# Altium schematic symbol library Stargazer_Schematic_Lib.SchLib: 36 symbols (part 2 of 2)
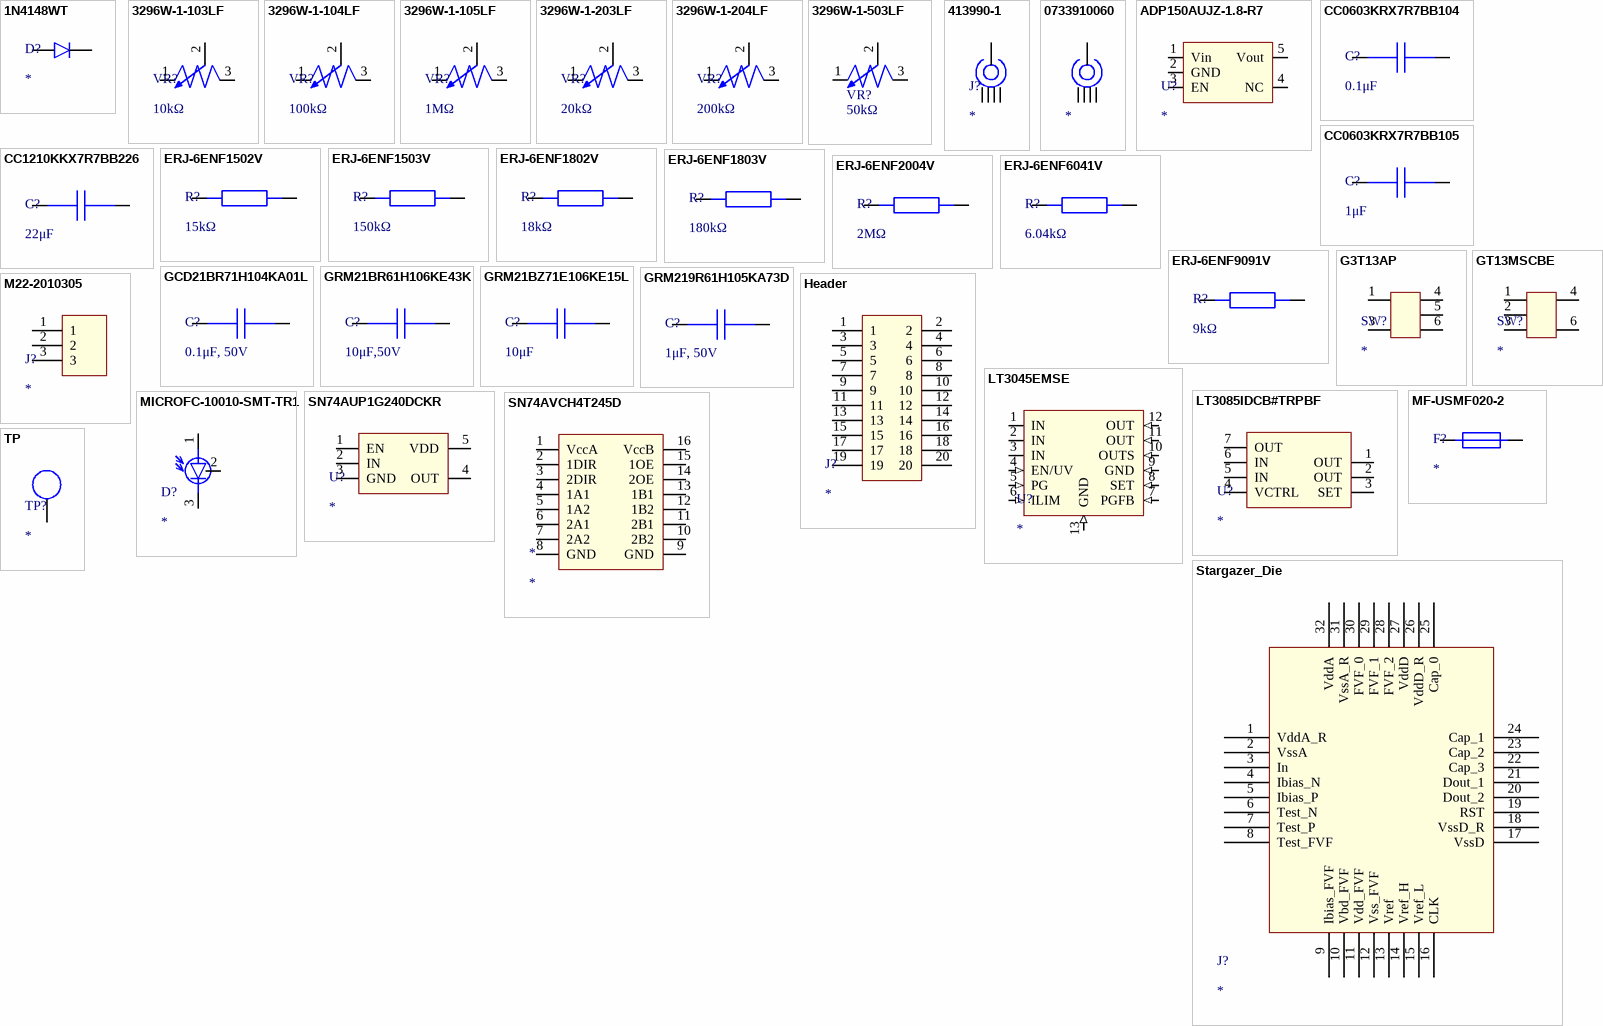
[diagram p1: symbols 1N4148WT to TP]

## ERJ-6ENF6041V
designator R?, comment 6.04kΩ
Fixed Resistor, Metal Glaze/thick Film, 0.125W, 6040ohm, 150V, 1% +/-Tol, 100ppm/Cel, Surface Mount, 0805 https://www.digikey.ie/en/products/detail/panasonic-electronic-components/ERJ-6ENF6041V/111433?srsltid=AfmBOoqGeGb69jeShbrZlC2p-6xDXZTyw2nEg-SLBHF8u22kANDwiO9i; Power: 125mW; Rated Temperature: 70°C; Value: 6.04kR; Temperature Coefficient (ppm/Cel): 100; Package Height: 0.6mm; Package Length: 2mm; Package Width: 1.25mm; Reference Standard: AEC-Q200; Supplier: Mouser; Supplier Part Number: 667-ERJ-6ENF6041V; Manufacturer: Panasonic; Manufacturer Part Number: ERJ-6ENF6041V; RoHS: Yes; Category: Chip SMD Resistors; Stock: 154139; Pricing: 1=0.1, 10=0.031, 50=0.031, 100=0.02, 1000=0.016, 10000=0.009 (USD); Mounting Technology: Surface Mount; Pins: 2; Package Shape: Rectangular; Case/Package: 0805; Terminal Finish: Nickel; Min Operating Temperature: -55°C; Max Operating Temperature: 155°C; Tolerance: 1%; JESD-609 Code: e3; Resistor Type: FIXED RESISTOR; Construction: Rectangular; Packaging: Tape and Reel; Technology: METAL GLAZE/THICK FILM; Termination: Wraparound; Working Voltage: 150V; Reach SVHC Compliant: Yes; RoHS Compliant: Yes; ComponentLink1URL: https://datasheet.ciiva.com:443/pdfs/VipMasterIC/IC/PANA/PANA-S-A0009889626/PANA-S-A0009889626-1.pdf?src-supplier=IHS+Markit; ComponentLink1Description: https://datasheet.ciiva.com:443/pdfs/VipMasterIC/IC/PANA/PANA-S-A0009889626/PANA-S-A0009889626-1.pdf?src-supplier=IHS+Markit; ComponentLink2URL: https://datasheet.ciiva.com/43460/426256-43460043.pdf?src-supplier=Farnell; ComponentLink2Description: https://datasheet.ciiva.com/43460/426256-43460043.pdf?src-supplier=Farnell; ComponentLink3URL: https://datasheet.ciiva.com/6129/426256-6129663.pdf?src-supplier=Farnell; ComponentLink3Description: https://datasheet.ciiva.com/6129/426256-6129663.pdf?src-supplier=Farnell; ComponentLink4URL: https://datasheet.ciiva.com/24026/aoa0000ce2-24026760.pdf?src-supplier=Mouser; ComponentLink4Description: https://datasheet.ciiva.com/24026/aoa0000ce2-24026760.pdf?src-supplier=Mouser; ComponentLink5URL: https://datasheet.ciiva.com/30241/aoa0000ce2-30241642.pdf?src-supplier=Onlinecomponents.com; ComponentLink5Description: https://datasheet.ciiva.com/30241/aoa0000ce2-30241642.pdf?src-supplier=Onlinecomponents.com; ComponentLink6URL: https://datasheet.ciiva.com/46389/426256-46389050.pdf?src-supplier=Element14; ComponentLink6Description: https://datasheet.ciiva.com/46389/426256-46389050.pdf?src-supplier=Element14; ComponentLink7URL: https://datasheet.ciiva.com/28545/1678782-28545450.pdf?src-supplier=Element14; ComponentLink7Description: https://datasheet.ciiva.com/28545/1678782-28545450.pdf?src-supplier=Element14; ComponentLink8URL: https://datasheet.ciiva.com/28658/1678782-28658413.pdf?src-supplier=Element14; ComponentLink8Description: https://datasheet.ciiva.com/28658/1678782-28658413.pdf?src-supplier=Element14
pins: 1 -, 2

## ERJ-6ENF9091V
designator R?, comment 9kΩ
Fixed Resistor, Metal Glaze/thick Film, 0.125W, 9090ohm, 150V, 1% +/-Tol, 100ppm/Cel, Surface Mount, 0805 https://www.digikey.ie/en/products/detail/panasonic-electronic-components/ERJ-6ENF9091V/111466; Power: 125mW; Rated Temperature: 70°C; Value: 9.09kR; Temperature Coefficient: 100ppm/°C; Package Height: 0.6mm; Package Length: 2mm; Package Width: 1.25mm; Reference Standard: AEC-Q200; Supplier: Rs; Supplier Part Number: 7326497; Manufacturer: Panasonic; Manufacturer Part Number: ERJ-6ENF9091V; RoHS: Yes; Category: Chip SMD Resistors; Stock: 10000; Pricing: 5000=0.009 (EUR); Mounting Technology: Surface Mount; Pins: 2; Package Shape: Rectangular; Case/Package: 0805; Terminal Finish: Nickel; Min Operating Temperature: -55°C; Max Operating Temperature: 155°C; Tolerance: 1%; JESD-609 Code: e3; Resistor Type: FIXED RESISTOR; Construction: Rectangular; Package Style: SMTMeter; Packaging: Tape and Reel; Technology: METAL GLAZE/THICK FILM; Termination: Wraparound; Working Voltage: 150V; Reach SVHC Compliant: Yes; RoHS Compliant: Yes; ComponentLink1URL: https://datasheet.ciiva.com:443/pdfs/VipMasterIC/IC/PANA/PANA-S-A0009889626/PANA-S-A0009889626-1.pdf?src-supplier=IHS+Markit; ComponentLink1Description: https://datasheet.ciiva.com:443/pdfs/VipMasterIC/IC/PANA/PANA-S-A0009889626/PANA-S-A0009889626-1.pdf?src-supplier=IHS+Markit; ComponentLink2URL: https://datasheet.ciiva.com/9117/aoa0000ce2-9117349.pdf?src-supplier=Avnet; ComponentLink2Description: https://datasheet.ciiva.com/9117/aoa0000ce2-9117349.pdf?src-supplier=Avnet; ComponentLink3URL: https://datasheet.ciiva.com/16769/70260748-16769495.pdf?src-supplier=Allied+Electronics; ComponentLink3Description: https://datasheet.ciiva.com/16769/70260748-16769495.pdf?src-supplier=Allied+Electronics; ComponentLink4URL: https://datasheet.ciiva.com/16769/70260748-16769703.pdf?src-supplier=Allied+Electronics; ComponentLink4Description: https://datasheet.ciiva.com/16769/70260748-16769703.pdf?src-supplier=Allied+Electronics; ComponentLink5URL: https://datasheet.ciiva.com/28592/1678782-28592349.pdf?src-supplier=Element14; ComponentLink5Description: https://datasheet.ciiva.com/28592/1678782-28592349.pdf?src-supplier=Element14
pins: 1 -, 2

## G3T13AP
designator SW?
Toggle Switch, SPDT, On-off-on, Momentary, 0.014A, 28VDC, 5 PCB Hole Cnt, Solder Terminal, Column Toggle Actuator, Surface Mount-straight https://www.digikey.ie/en/products/detail/nkk-switches/G3T13AP/1006857; Manufacturer: NKK Switches; Manufacturer Series: G3T; Actuator Material: Polyphenylene; End Contact Plating: Gold; End Contact Material: Bronze; Actuator Angle: 28°; Contact AC Max Rating R Load: .014A@28VAC; Contact Current(AC)-Max: 14mA; Contact DC Max Power Rating R Load: 0.4VA@28VDC; Contact DC Max Rating R Load: .014A@28VDC; Contact Resistance: 0.08mR; Contact Voltage(AC)-Max: 28V; Dielectric Withstand Volts: 500VACV; Electrical Life: 50000Cycles; Insulation Resistance: 500MR; Operating Force-Max: 1.6N; PCB Hole Count: 5; Solderability: WAVE; Actuator Length: 0.15inch; Body Breadth: 5inch; Body Height: 9mm; Body Length or Diameter: 8.5mm; Bushing Diameter: 0.157inch; Bushing Length: 0.059inch; Sealing: EPOXY TERMINAL SEALED; Supplier: Digikey; Supplier Part Number: 360-1778-ND; Manufacturer Part Number: G3T13AP; RoHS: Yes; Category: Toggle Switches; Stock: 37; Mounting Technology: Surface Mount; Contact Material: Bronze; Center Contact Plating: Gold; Housing Material: Polyphenylene; Insulation Material: Polyphenylene; Terminal Finish: Gold; Terminal Material: Bronze; Min Operating Temperature: -30°C; Max Operating Temperature: 85°C; JESD-609 Code: e4; Actuator Type: Toggle; Contact Current(DC)-Max: 14mA; Contact Function: On-Off-On; Contact Voltage(DC)-Max: 28V; Packaging: Tray; Switch Action: MOMENTARY; Switch Function: SPDT; Switch Type: Toggle; Termination: Solder; Terminal Length: 0inch; Reach SVHC Compliant: Yes; RoHS Compliant: Yes; ComponentLink1URL: https://datasheet.ciiva.com:443/pdfs/VipMasterIC/IC/NKSW/NKSWS00078/NKSWS00078-1.pdf?src-supplier=IHS+Markit; ComponentLink1Description: https://datasheet.ciiva.com:443/pdfs/VipMasterIC/IC/NKSW/NKSWS00078/NKSWS00078-1.pdf?src-supplier=IHS+Markit; ComponentLink2URL: https://datasheet.ciiva.com/2906/g3toggles-2906578.pdf?src-supplier=Digikey; ComponentLink2Description: https://datasheet.ciiva.com/2906/g3toggles-2906578.pdf?src-supplier=Digikey; ComponentLink3URL: https://datasheet.ciiva.com/8067/9800-8067790.pdf?src-supplier=Element14; ComponentLink3Description: https://datasheet.ciiva.com/8067/9800-8067790.pdf?src-supplier=Element14; ComponentLink4URL: https://datasheet.ciiva.com/15183/getdatasheetpartid-684347-15183581.pdf?src-supplier=Verical; ComponentLink4Description: https://datasheet.ciiva.com/15183/getdatasheetpartid-684347-15183581.pdf?src-supplier=Verical
pins: 1, 3, 4, 5, 6

## GCD21BR71H104KA01L
designator C?, comment 0.1μF, 50V
Ceramic Capacitor, Multilayer, Ceramic, 50V, 10% +Tol, 10% -Tol, X7R, 15% TC, 0.1uF, Surface Mount, 0805 https://www.digikey.ie/en/products/detail/murata-electronics/GCD21BR71H104KA01L/4421528; Manufacturer: Murata; Value: 100nF; Multilayer: Yes; Reference Standard: AEC-Q200; Supplier: Rs; Supplier Part Number: 2477725; Manufacturer Part Number: GCD21BR71H104KA01L; RoHS: Yes; Category: Ceramic Capacitors; Stock: 220; Pricing: 20=0.086, 100=0.077, 1000=0.064, 2000=0.043 (EUR); Mounting Technology: Surface Mount; Pins: 2; Dielectric Material: Ceramic; Package Shape: Rectangular; Case/Package: 0805; Terminal Finish: Nickel; Min Operating Temperature: -55°C; Max Operating Temperature: 125°C; JESD-609 Code: e3; Capacitor Type: Ceramic; Tolerance  (fill in as +-): 10%; Packaging: Tape and Reel; Tolerance (fill in as +-): 10%; Rated DC Voltage (URdc): 50V; Temperature Characteristics Code: X7R; Termination: Wraparound; Reach SVHC Compliant: Yes; RoHS Compliant: Yes; ComponentLink1URL: https://datasheet.ciiva.com:443/pdfs/VipMasterIC/IC/MURE/MURE-S-A0004383799/MURE-S-A0004386677-1.pdf?src-supplier=IHS+Markit; ComponentLink1Description: https://datasheet.ciiva.com:443/pdfs/VipMasterIC/IC/MURE/MURE-S-A0004383799/MURE-S-A0004386677-1.pdf?src-supplier=IHS+Markit; ComponentLink2URL: https://datasheet.ciiva.com/29537/c03e-29537701.pdf?src-supplier=Digikey; ComponentLink2Description: https://datasheet.ciiva.com/29537/c03e-29537701.pdf?src-supplier=Digikey
pins: 1, 2

## GRM21BR61H106KE43K
designator C?, comment 10μF,50V
Multilayer Ceramic Capacitor, 10 uF, 50 V, 10%, 0805; Manufacturer: Murata; Manufacturer Part Number: GRM21BR61H106KE43K; Supplier: Rs; Supplier Part Number: 2608821; RoHS: Yes; Category: Ceramic Capacitors; Stock: 1020; Pricing: 20=0.196, 200=0.172, 1000=0.148, 2000=0.119, 3000=0.084 (EUR)
pins: 1, 2

## GRM21BZ71E106KE15L
designator C?, comment 10μF
Multilayer Ceramic Capacitor, 10 uF, 25 V, ï¿½ 10%, X7R, 0805 [2012 Metric] https://www.digikey.ie/en/products/detail/murata-electronics/GRM21BZ71E106KE15L/13904911; Manufacturer: Murata; Material: 4241ConductorMaterial; Value: 10uF; Voltage Rating: 25V; Supplier: Future Electronics; Supplier Part Number: 6134628; Manufacturer Part Number: GRM21BZ71E106KE15L; Category: Ceramic Capacitors; Stock: 81000; Case/Package: 339Case; Min Operating Temperature: -55°C; Max Operating Temperature: 125°C; Tolerance: 10%; Length: 2mm; Width: 1.25mm; Height: 1.45mm; Thickness: 1.25mm; RoHS Compliant: Yes; ComponentLink1URL: https://datasheet.octopart.com/GRM21BZ71E106KE15L-Murata-datasheet-141278873.pdf?src-supplier=Geoflip; ComponentLink1Description: https://datasheet.octopart.com/GRM21BZ71E106KE15L-Murata-datasheet-141278873.pdf?src-supplier=Geoflip; ComponentLink2URL: https://datasheet.octopart.com/GRM21BZ71E106KE15L-Murata-datasheet-165579666.pdf?src-supplier=TME; ComponentLink2Description: https://datasheet.octopart.com/GRM21BZ71E106KE15L-Murata-datasheet-165579666.pdf?src-supplier=TME; ComponentLink3URL: https://datasheet.octopart.com/GRM21BZ71E106KE15L-Murata-datasheet-140707837.pdf?src-supplier=Ciiva+Crawler; ComponentLink3Description: https://datasheet.octopart.com/GRM21BZ71E106KE15L-Murata-datasheet-140707837.pdf?src-supplier=Ciiva+Crawler; ComponentLink4URL: https://datasheet.octopart.com/GRM21BZ71E106KE15L-Murata-datasheet-138745134.pdf?src-supplier=Ciiva+Crawler; ComponentLink4Description: https://datasheet.octopart.com/GRM21BZ71E106KE15L-Murata-datasheet-138745134.pdf?src-supplier=Ciiva+Crawler
pins: 1, 2

## GRM219R61H105KA73D
designator C?, comment 1μF, 50V
Ceramic Capacitor, Multilayer, Ceramic, 50V, 10% +Tol, 10% -Tol, X5R, 15% TC, 1uF, Surface Mount, 0805 https://www.digikey.ie/en/products/detail/murata-electronics/GRM219R61H105KA73D/4905429; Manufacturer: Murata; Multilayer: Yes; Supplier: Future Electronics; Supplier Part Number: 7095939; Manufacturer Part Number: GRM219R61H105KA73D; RoHS: Yes; Category: Ceramic Capacitors; Stock: 24000; Pricing: 4000=0.0333, 12000=0.0325, 16000=0.0323, 40000=0.0316, 60000=0.031 (USD); Mounting Technology: Surface Mount; Pins: 2; Dielectric Material: Ceramic; Package Shape: Rectangular; Case/Package: 0805; Terminal Finish: Nickel; Min Operating Temperature: -55°C; Max Operating Temperature: 85°C; JESD-609 Code: e3; Value: 1uF; Capacitor Type: Ceramic; Tolerance  (fill in as +-): 10%; Package Style: SMTMeter; Packaging: Tape and Reel; Tolerance (fill in as +-): 10%; Rated DC Voltage (URdc): 50V; Temperature Characteristics Code: X5R; Termination: Wraparound; Length: 2mm; Width: 1.25mm; Height: 0.85mm; Reach SVHC Compliant: Yes; RoHS Compliant: Yes; ComponentLink1URL: https://datasheet.ciiva.com:443/pdfs/VipMasterIC/IC/MURE/MURE-S-A0004349797/MURE-S-A0004361778-1.pdf?src-supplier=IHS+Markit; ComponentLink1Description: https://datasheet.ciiva.com:443/pdfs/VipMasterIC/IC/MURE/MURE-S-A0004349797/MURE-S-A0004361778-1.pdf?src-supplier=IHS+Markit; ComponentLink2URL: https://datasheet.ciiva.com/22706/1747465-22706804.pdf?src-supplier=Element14; ComponentLink2Description: https://datasheet.ciiva.com/22706/1747465-22706804.pdf?src-supplier=Element14; ComponentLink3URL: https://datasheet.ciiva.com/7719/1747465-7719067.pdf?src-supplier=Element14; ComponentLink3Description: https://datasheet.ciiva.com/7719/1747465-7719067.pdf?src-supplier=Element14
pins: 1, 2

## GT13MSCBE
designator SW?
Toggle Switch, SPDT, On-on, Horizontal, Solder Terminal, Toggle Actuator, Surface Mount-straight https://www.digikey.ie/en/products/detail/c-k/gt13mscbe/687988; Manufacturer: ITT C&K; Manufacturer Series: GT; Actuator Material: Nylon,Glass; End Contact Plating: Gold; End Contact Material: Copper Alloy; Actuator Angle: 25°; Contact AC Max Power Rating R Load: 0.4VA@20VAC; Contact Resistance: 0.05mR; Dielectric Withstand Volts: 500VRMSV; Electrical Life: 40000Cycles; Insulation Resistance: 1GR; Solderability: MIL-STD; Actuator Length: 0.15inch; Body Breadth: 7.0104inch; Body Height: 5.842mm; Body Length or Diameter: 4.4958mm; Bushing Diameter: 0.066inch; Bushing Length: 0.063inch; Sealing: EPOXY; Supplier: Digikey; Supplier Part Number: CKN2092CT-ND; Manufacturer Part Number: GT13MSCBE; RoHS: Yes; Category: Toggle Switches; Mounting Technology: Surface Mount; Contact Material: Copper Alloy; Center Contact Plating: Gold; Housing Material: Nylon; Insulation Material: Nylon; Terminal Finish: Gold; Min Operating Temperature: -30°C; Max Operating Temperature: 85°C; JESD-609 Code: e4; Actuator Type: Toggle; Contact Function: On-On; Switch Action: HORIZONTAL; Switch Function: SPDT; Switch Type: Toggle; Termination: Solder; RoHS Compliant: Yes; Reach SVHC Compliant: No; ComponentLink1URL: https://datasheet.ciiva.com:443/pdfs/VipMasterIC/IC/CKCI/CKCI-S-A0001796595/CKCI-S-A0001796595-1.pdf?src-supplier=IHS+Markit; ComponentLink1Description: https://datasheet.ciiva.com:443/pdfs/VipMasterIC/IC/CKCI/CKCI-S-A0001796595/CKCI-S-A0001796595-1.pdf?src-supplier=IHS+Markit; ComponentLink2URL: https://datasheet.ciiva.com/2904/gt-1oct13-2904477.pdf?src-supplier=Digikey; ComponentLink2Description: https://datasheet.ciiva.com/2904/gt-1oct13-2904477.pdf?src-supplier=Digikey; ComponentLink3URL: https://datasheet.ciiva.com/2904/gt-1oct13-2904478.pdf?src-supplier=Digikey; ComponentLink3Description: https://datasheet.ciiva.com/2904/gt-1oct13-2904478.pdf?src-supplier=Digikey; ComponentLink4URL: https://datasheet.ciiva.com/2904/gt-1oct13-2904479.pdf?src-supplier=Digikey; ComponentLink4Description: https://datasheet.ciiva.com/2904/gt-1oct13-2904479.pdf?src-supplier=Digikey; ComponentLink5URL: https://datasheet.ciiva.com/16166/gt-1oct13-16166170.pdf?src-supplier=Onlinecomponents.com; ComponentLink5Description: https://datasheet.ciiva.com/16166/gt-1oct13-16166170.pdf?src-supplier=Onlinecomponents.com
pins: 1, 2, 3, 4, 6

## Header
designator J?
30 contacts, 2 rows, Male, Straight, 0.079 inch Pitch, Solder Terminal, Black Insulator, Plug; Manufacturer: Harwin; Manufacturer Part Number: M22-2010305; Connector Type: BOARD CONNECTOR; Option: General Purpose; Additional Feature: ROHS COMPLIANT; Body/Shell Style: RECEPTACLE; Contact Pattern: RECTANGULAR; Contact Resistance: 20mR; Contact Style: SQ PIN-SKT; Dielectric Withstanding Voltage (AC): 650V; Durability: 300Cycles; Filter Feature: No; Insertion Force-Max: 2.0016N; Insulation Resistance: 100MR; Number Of Connectors: 1; Rated Current (Signal): 1A; Number of Contacts: 3; Withdrawl Force-Min: 0.3058N; Body Depth: 0.059inch; Body Length: 0.236inch; Reference Standard: UL; Reliability: COMMERCIAL; Supplier: Rs; Supplier Part Number: 6813281P; RoHS: Yes; Category: Headers and Wire Housings; Stock: 7510; Pricing: 250=0.109, 1000=0.092, 5000=0.086, 10000=0.084 (EUR); Mounting Technology: Board; Contact Material: Bronze; Contact Finish - Mating: GOLD; Contact Finish - Termination: Gold (Au) - with Nickel (Ni) barrier; Insulation Color: Black; Insulation Material: Nylon; Min Operating Temperature: -55°C; Max Operating Temperature: 105°C; JESD-609 Code: e4; Contact Gender: Male; Mixed Contacts: No; Mounting Style: STRAIGHT; Number Of PCB Rows: 1; Number of Rows Loaded: 1; PCB Contact Pattern: RECTANGULAR; Termination: Solder; Body Breadth: 0.079inch; Mating Contact Pitch: 0.079inch; Terminal Length: 0.134inch; Terminal Pitch: 2mm; Flammability Rating: UL94 V-0; DIN Conformance: No; IEC Conformance: No; MIL Conformance: No; Reach SVHC Compliant: Yes; RoHS Compliant: Yes; ComponentLink1URL: https://datasheet.ciiva.com:443/pdfs/VipMasterIC/IC/HRWN/HRWN-S-A0002541722/HRWN-S-A0004894629-1.pdf?src-supplier=IHS+Markit; ComponentLink1Description: https://datasheet.ciiva.com:443/pdfs/VipMasterIC/IC/HRWN/HRWN-S-A0002541722/HRWN-S-A0004894629-1.pdf?src-supplier=IHS+Markit; ComponentLink2URL: https://datasheet.ciiva.com/11747/0900766b80db990d-11747220.pdf?src-supplier=Rs; ComponentLink2Description: https://datasheet.ciiva.com/11747/0900766b80db990d-11747220.pdf?src-supplier=Rs; ComponentLink3URL: https://datasheet.ciiva.com/26899/getdatasheetpartid-133714-26899452.pdf?src-supplier=Verical; ComponentLink3Description: https://datasheet.ciiva.com/26899/getdatasheetpartid-133714-26899452.pdf?src-supplier=Verical; ComponentLink4URL: https://datasheet.ciiva.com/6832/m22-201-6832890.pdf?src-supplier=Digikey; ComponentLink4Description: https://datasheet.ciiva.com/6832/m22-201-6832890.pdf?src-supplier=Digikey; ComponentLink5URL: https://datasheet.ciiva.com/9479/m22-201-9479471.pdf?src-supplier=Avnet; ComponentLink5Description: https://datasheet.ciiva.com/9479/m22-201-9479471.pdf?src-supplier=Avnet; ComponentLink6URL: https://datasheet.ciiva.com/36858/1693770-36858190.pdf?src-supplier=Element14; ComponentLink6Description: https://datasheet.ciiva.com/36858/1693770-36858190.pdf?src-supplier=Element14
pins: 1, 2, 3, 4, 5, 6, 7, 8, 9, 10, 11, 12, 13, 14, 15, 16, 17, 18, 19, 20

## LT3045EMSE
designator U?
20V, 500mA, Ultralow Noise, Ultrahigh PSRR Linear Regulator  https://www.digikey.ie/en/products/detail/analog-devices-inc/LT3045EMSE-PBF/6234771
footprint TSOP65P490X110_HS-13N (TSOP, 12-Leads, Body 4.04x3.00mm, Pitch 0.65mm, Thermal Pad 2.95x1.76mm, IPC Medium Density)
pins: 1 IN, 2 IN, 3 IN, 4 EN/UV (in), 5 PG (in), 6 ILIM (in), 7 PGFB (in), 8 SET (in), 9 GND (in), 10 OUTS (in), 11 OUT (in), 12 OUT (in), 13 GND (in)

## LT3085IDCB#TRPBF
designator U?
Adjustable Positive LDO Regulator, 0V Min, 36V Max, 0.45V Dropout, PDSO6 https://www.digikey.ie/en/products/detail/analog-devices-inc/LT3085IDCB-TRPBF/1985671; Manufacturer: Analog Devices / Linear Technology; Manufacturer Part Number: LT3085IDCB#TRPBF; Package Body Material: Plastic; Dropout Voltage1-Max: 450mV; Input-Output Voltage Differential-Min: 1V; Channels: 1; Output Current1-Max: 500mA; Regulator Type: ADJUSTABLE POSITIVE SINGLE OUTPUT LDO REGULATOR; Time @ Peak Reflow Temperature-Max (s): 30s; Qualification Status: Not Qualified; Supplier: Mouser; Supplier Part Number: 584-LT3085IDCB#TRPBF; RoHS: Yes; Category: Voltage Regulators - Linear; Stock: 2488; Pricing: 1=7.1, 10=4.41, 50=4.41, 100=3.74, 1000=3.04, 10000=2.87 (USD); Case/Package: HVSON; Pins: 6; Package Shape: Rectangular; Terminal Finish: Tin; JESD-609 Code: e3; Input-Output Voltage Differential-Max: 36V; JESD-30 Code: R-PDSO-N6; Moisture Sensitivity Level: 1; Operating Temperature, TJ-Max: 125°C; Operating Temperature, TJ-Min: -40°C; Output Voltage1-Max: 36V; Output Voltage1-Min: 0V; Package Style: SMALL OUTLINE, HEAT SINK/SLUG, VERY THIN PROFILEMeter; Peak Reflow Temperature (Cel): 260°C; Surface Mount: Yes; Terminal Form: No Lead; Terminal Position: DUAL; Length: 3mm; Width: 2mm; Height - Seated (Max): 0.8mm; Terminal Pitch: 0.5mm; Reach SVHC Compliant: Yes; RoHS Compliant: Yes; ComponentLink1URL: https://datasheet.ciiva.com:443/pdfs/VipMasterIC/IC/LITC/LITCS10734/LITCS10451-1.pdf?src-supplier=IHS+Markit; ComponentLink1Description: https://datasheet.ciiva.com:443/pdfs/VipMasterIC/IC/LITC/LITCS10734/LITCS10451-1.pdf?src-supplier=IHS+Markit; ComponentLink2URL: https://datasheet.ciiva.com/2058/26766-2058533.pdf?src-supplier=Digikey; ComponentLink2Description: https://datasheet.ciiva.com/2058/26766-2058533.pdf?src-supplier=Digikey
pins: 1 OUT, 2 OUT, 3 SET, 4 VCTRL, 5 IN, 6 IN, 7 OUT

## M22-2010305
designator J?
Board Connector, 3 Contact(s), 1 Row(s), Male, Straight, 0.079 inch Pitch, Solder Terminal, Black Insulator, Plug https://www.digikey.ie/en/products/detail/harwin-inc/M22-2010305/3728238; Manufacturer: Harwin; Option: General Purpose; Additional Feature: ROHS COMPLIANT; Body/Shell Style: RECEPTACLE; Contact Pattern: RECTANGULAR; Contact Resistance: 20mR; Contact Style: SQ PIN-SKT; Dielectric Withstanding Voltage (AC): 650V; Durability: 300Cycles; Filter Feature: No; Insertion Force-Max: 2.0016N; Insulation Resistance: 100MR; Number Of Connectors: 1; Rated Current (Signal): 1A; Number of Contacts: 3; Withdrawl Force-Min: 0.3058N; Body Depth: 0.059inch; Body Length: 0.236inch; Reference Standard: UL; Reliability: COMMERCIAL; Supplier: Rs; Supplier Part Number: 6813281P; Manufacturer Part Number: M22-2010305; RoHS: Yes; Category: Headers and Wire Housings; Stock: 7510; Pricing: 250=0.109, 1000=0.092, 5000=0.086, 10000=0.084 (EUR); Mounting Technology: Board; Contact Material: Bronze; Contact Finish - Mating: GOLD; Contact Finish - Termination: Gold (Au) - with Nickel (Ni) barrier; Insulation Color: Black; Insulation Material: Nylon; Min Operating Temperature: -55°C; Max Operating Temperature: 105°C; Connector Type: BOARD CONNECTOR; JESD-609 Code: e4; Contact Gender: Male; Mixed Contacts: No; Mounting Style: STRAIGHT; Number Of PCB Rows: 1; Number of Rows Loaded: 1; PCB Contact Pattern: RECTANGULAR; Termination: Solder; Body Breadth: 0.079inch; Mating Contact Pitch: 0.079inch; Terminal Length: 0.134inch; Terminal Pitch: 2mm; Flammability Rating: UL94 V-0; DIN Conformance: No; IEC Conformance: No; MIL Conformance: No; Reach SVHC Compliant: Yes; RoHS Compliant: Yes; ComponentLink1URL: https://datasheet.ciiva.com:443/pdfs/VipMasterIC/IC/HRWN/HRWN-S-A0002541722/HRWN-S-A0004894629-1.pdf?src-supplier=IHS+Markit; ComponentLink1Description: https://datasheet.ciiva.com:443/pdfs/VipMasterIC/IC/HRWN/HRWN-S-A0002541722/HRWN-S-A0004894629-1.pdf?src-supplier=IHS+Markit; ComponentLink2URL: https://datasheet.ciiva.com/11747/0900766b80db990d-11747220.pdf?src-supplier=Rs; ComponentLink2Description: https://datasheet.ciiva.com/11747/0900766b80db990d-11747220.pdf?src-supplier=Rs; ComponentLink3URL: https://datasheet.ciiva.com/26899/getdatasheetpartid-133714-26899452.pdf?src-supplier=Verical; ComponentLink3Description: https://datasheet.ciiva.com/26899/getdatasheetpartid-133714-26899452.pdf?src-supplier=Verical; ComponentLink4URL: https://datasheet.ciiva.com/6832/m22-201-6832890.pdf?src-supplier=Digikey; ComponentLink4Description: https://datasheet.ciiva.com/6832/m22-201-6832890.pdf?src-supplier=Digikey; ComponentLink5URL: https://datasheet.ciiva.com/9479/m22-201-9479471.pdf?src-supplier=Avnet; ComponentLink5Description: https://datasheet.ciiva.com/9479/m22-201-9479471.pdf?src-supplier=Avnet; ComponentLink6URL: https://datasheet.ciiva.com/36858/1693770-36858190.pdf?src-supplier=Element14; ComponentLink6Description: https://datasheet.ciiva.com/36858/1693770-36858190.pdf?src-supplier=Element14
pins: 1, 2, 3

## MF-USMF020-2
designator F?
PTC Resettable Fuse, 30V, Surface Mount https://www.digikey.ie/en/products/detail/bourns-inc/mf-usmf020-2/1014921; Manufacturer: Bourns; Thermistor Application: OVERLOAD PROTECTION; Supplier: Rs; Supplier Part Number: 6478370P; Manufacturer Part Number: MF-USMF020-2; RoHS: Yes; Category: PTC Resettable Fuses; Stock: 4440; Pricing: 100=0.265, 500=0.258, 1500=0.251, 2500=0.244 (EUR); Mounting Technology: Surface Mount; Pins: 2; Package Shape: Rectangular; Terminal Finish: Nickel; Min Operating Temperature: -40°C; Max Operating Temperature: 85°C; JESD-609 Code: e4; Resistor Type: PTC RESETTABLE FUSE; Packaging: Tape and Reel; Rated AC Voltage (URac): 30V; Terminal Placement: Dual Ended; Termination: Wraparound; Reach SVHC Compliant: Yes; RoHS Compliant: Yes; ComponentLink1URL: https://datasheet.ciiva.com:443/pdfs/VipMasterIC/IC/BOUR/BOUR-S-A0008383091/BOUR-S-A0008383091-1.pdf?src-supplier=IHS+Markit; ComponentLink1Description: https://datasheet.ciiva.com:443/pdfs/VipMasterIC/IC/BOUR/BOUR-S-A0008383091/BOUR-S-A0008383091-1.pdf?src-supplier=IHS+Markit; ComponentLink2URL: https://datasheet.ciiva.com/34302/1164971-34302049.pdf?src-supplier=Jameco; ComponentLink2Description: https://datasheet.ciiva.com/34302/1164971-34302049.pdf?src-supplier=Jameco; ComponentLink3URL: https://datasheet.ciiva.com/326/mfusmf-326435.pdf?src-supplier=Digikey; ComponentLink3Description: https://datasheet.ciiva.com/326/mfusmf-326435.pdf?src-supplier=Digikey; ComponentLink4URL: https://datasheet.ciiva.com/326/mfusmf-326436.pdf?src-supplier=Digikey; ComponentLink4Description: https://datasheet.ciiva.com/326/mfusmf-326436.pdf?src-supplier=Digikey; ComponentLink5URL: https://datasheet.ciiva.com/326/mfusmf-326437.pdf?src-supplier=Digikey; ComponentLink5Description: https://datasheet.ciiva.com/326/mfusmf-326437.pdf?src-supplier=Digikey; ComponentLink6URL: https://datasheet.ciiva.com/3019/mfusmf-3019685.pdf?src-supplier=Avnet; ComponentLink6Description: https://datasheet.ciiva.com/3019/mfusmf-3019685.pdf?src-supplier=Avnet; ComponentLink7URL: https://datasheet.ciiva.com/3019/mfusmf-3019686.pdf?src-supplier=Avnet; ComponentLink7Description: https://datasheet.ciiva.com/3019/mfusmf-3019686.pdf?src-supplier=Avnet; ComponentLink8URL: https://datasheet.ciiva.com/30081/mfusmf-30081990.pdf?src-supplier=Onlinecomponents.com; ComponentLink8Description: https://datasheet.ciiva.com/30081/mfusmf-30081990.pdf?src-supplier=Onlinecomponents.com; ComponentLink9URL: https://datasheet.ciiva.com/46433/1869950-46433750.pdf?src-supplier=Element14; ComponentLink9Description: https://datasheet.ciiva.com/46433/1869950-46433750.pdf?src-supplier=Element14; ComponentLink10URL: https://datasheet.ciiva.com/46433/1869950-46433751.pdf?src-supplier=Element14; ComponentLink10Description: https://datasheet.ciiva.com/46433/1869950-46433751.pdf?src-supplier=Element14; ComponentLink11URL: https://datasheet.ciiva.com/32438/mf-usmf-series-eng-tds-32438758.pdf?src-supplier=Distrelec; ComponentLink11Description: https://datasheet.ciiva.com/32438/mf-usmf-series-eng-tds-32438758.pdf?src-supplier=Distrelec
pins: 1 -, 2

## MICROFC-10010-SMT-TR1
designator D?
Avalanche Photodiode; Manufacturer: ON Semiconductor; Manufacturer Part Number: MICROFC-10010-SMT-TR1; Supplier: Mouser; Supplier Part Number: 863-MFC10010SMTTR1; RoHS: Yes; Stock: 217; Pricing: 1=58.64, 10=49.38, 50=48.57, 100=48.57, 1000=48.57, 10000=48.57 (USD); ComponentLink1URL: https://datasheet.ciiva.com:443/pdfs/VipMasterIC/IC/ONSM/ONSM-S-A0006651406/ONSM-S-A0006651406-1.pdf?src-supplier=IHS+Markit; ComponentLink1Description: https://datasheet.ciiva.com:443/pdfs/VipMasterIC/IC/ONSM/ONSM-S-A0006651406/ONSM-S-A0006651406-1.pdf?src-supplier=IHS+Markit; ComponentLink2URL: https://www.onsemi.com/pub/Collateral/MICROC-SERIES-D.PDF?src-supplier=Digikey; ComponentLink2Description: https://www.onsemi.com/pub/Collateral/MICROC-SERIES-D.PDF?src-supplier=Digikey
footprint CWDFN4
pins: 1 Anode, 2 Fast Output, 3 Cathode

## SN74AUP1G240DCKR
designator U?
Bus Driver, AUP/ULP/V Series, 1-Func, 1-Bit, Inverted Output, CMOS, PDSO5 https://www.digikey.ie/en/products/detail/texas-instruments/SN74AUP1G240DCKR/758763?s=N4IgTCBcDaIMoDkDsAWAggVQAoEYDiYKADACIDCA0gEogC6AvkA; Manufacturer: Texas Instruments; Package Body Material: Plastic; Control Type: ENABLE LOW; Load Capacitance (CL): 30pF; Max I(ol): 1.7mA; Number of Bits: 1; Number of Ports: 2; Output Characteristics: 3-STATE; Package Equivalence Code: TSSOP5/6,.08; Power Supplies: 1.2/3.3V; Prop. Delay@Nom-Sup: 25.7ns; Max Supply Voltage: 3.6V; Min Supply Voltage: 800mV; Nominal Supply Voltage: 1.2V; Qualification Status: Not Qualified; Supplier: Mouser; Supplier Part Number: 595-SN74AUP1G240DCKR; Manufacturer Part Number: SN74AUP1G240DCKR; RoHS: Yes; Category: Buffers, Drivers and Transceivers; Stock: 6324; Case/Package: TSSOP; Pins: 5; Package Shape: Rectangular; Terminal Finish: Nickel; Min Operating Temperature: -40°C; Max Operating Temperature: 85°C; JESD-609 Code: e4; Output Polarity: INVERTED; JESD-30 Code: R-PDSO-G5; Logic Type: BUS DRIVER; Moisture Sensitivity Level: 1; Channels: 1; Package Style: SMALL OUTLINE, THIN PROFILE, SHRINK PITCHMeter; Packaging: Tape and Reel; Peak Reflow Temperature (Cel): 260°C; Propagation Delay (tpd): 25.7ns; Surface Mount: Yes; Technology: CMOS; Terminal Form: Gull Wing; Terminal Position: DUAL; Length: 2mm; Width: 1.25mm; Height - Seated (Max): 1.1mm; Terminal Pitch: 0.65mm; Temperature Grade: INDUSTRIAL; Reach SVHC Compliant: Yes; RoHS Compliant: Yes; ComponentLink1URL: https://www.ti.com:443/lit/ds/symlink/sn74aup1g240.pdf?src-supplier=IHS+Markit; ComponentLink1Description: https://www.ti.com:443/lit/ds/symlink/sn74aup1g240.pdf?src-supplier=IHS+Markit; ComponentLink2URL: https://datasheet.ciiva.com/1865/sn74aup1g240-1865172.pdf?src-supplier=Digikey; ComponentLink2Description: https://datasheet.ciiva.com/1865/sn74aup1g240-1865172.pdf?src-supplier=Digikey; ComponentLink3URL: https://datasheet.ciiva.com/1865/sn74aup1g240-1865173.pdf?src-supplier=Digikey; ComponentLink3Description: https://datasheet.ciiva.com/1865/sn74aup1g240-1865173.pdf?src-supplier=Digikey; ComponentLink4URL: https://datasheet.ciiva.com/1865/sn74aup1g240-1865174.pdf?src-supplier=Digikey; ComponentLink4Description: https://datasheet.ciiva.com/1865/sn74aup1g240-1865174.pdf?src-supplier=Digikey; ComponentLink5URL: https://datasheet.ciiva.com/14317/sces627c-14317197.pdf?src-supplier=Avnet; ComponentLink5Description: https://datasheet.ciiva.com/14317/sces627c-14317197.pdf?src-supplier=Avnet
pins: 1 EN, 2 IN, 3 GND, 4 OUT, 5 VDD

## SN74AVCH4T245D
designator *
Bus Transceiver, AVC Series, 2-Func, 2-Bit, True Output, CMOS, PDSO16; Manufacturer: Texas Instruments; Manufacturer Part Number: SN74AVCH4T245D; Package Body Material: Plastic; Control Type: COMMON CONTROL; Count Direction: Bidirectional; Load Capacitance (CL): 15pF; Load/Preset Input: Yes; Max I(ol): 8mA; Number of Bits: 2; Output Characteristics: 3-STATE; Package Equivalence Code: SOP16,.25; Power Supplies: 1.5/3.3V; Prop. Delay@Nom-Sup: 6.3ns; Max Supply Voltage: 3.6V; Min Supply Voltage: 1.2V; Nominal Supply Voltage: 1.5V; Qualification Status: Not Qualified; Supplier: Mouser; Supplier Part Number: 595-SN74AVCH4T245D; RoHS: Yes; Category: Buffers, Drivers and Transceivers; Stock: 207; Pricing: 1=1.57, 10=0.97, 50=0.97, 100=0.97, 1000=0.852, 10000=0.826 (USD); Case/Package: SOP; Pins: 16; Package Shape: Rectangular; Terminal Finish: Nickel; Min Operating Temperature: -40°C; Max Operating Temperature: 85°C; JESD-609 Code: e4; Output Polarity: True; JESD-30 Code: R-PDSO-G16; Logic Type: BUS TRANSCEIVER; Moisture Sensitivity Level: 1; Channels: 2; Number of Ports: 2; Package Style: SMALL OUTLINEMeter; Packaging: Rail/Tube; Peak Reflow Temperature (Cel): 260°C; Propagation Delay (tpd): 6.3ns; Surface Mount: Yes; Technology: CMOS; Terminal Form: Gull Wing; Terminal Position: DUAL; Length: 9.9mm; Width: 3.9mm; Height - Seated (Max): 1.75mm; Terminal Pitch: 1.27mm; Temperature Grade: INDUSTRIAL; Reach SVHC Compliant: Yes; RoHS Compliant: Yes; ComponentLink1URL: https://www.ti.com:443/lit/ds/symlink/sn74avch4t245.pdf?src-supplier=IHS+Markit; ComponentLink1Description: https://www.ti.com:443/lit/ds/symlink/sn74avch4t245.pdf?src-supplier=IHS+Markit; ComponentLink2URL: https://datasheet.ciiva.com/15086/getdatasheetpartid-164591-15086268.pdf?src-supplier=Verical; ComponentLink2Description: https://datasheet.ciiva.com/15086/getdatasheetpartid-164591-15086268.pdf?src-supplier=Verical; ComponentLink3URL: https://datasheet.ciiva.com/14316/sces577d-14316314.pdf?src-supplier=Avnet; ComponentLink3Description: https://datasheet.ciiva.com/14316/sces577d-14316314.pdf?src-supplier=Avnet; ComponentLink4URL: https://datasheet.ciiva.com/1900/sn74avch4t245-1900233.pdf?src-supplier=Digikey; ComponentLink4Description: https://datasheet.ciiva.com/1900/sn74avch4t245-1900233.pdf?src-supplier=Digikey
pins: 1 VccA, 2 1DIR, 3 2DIR, 4 1A1, 5 1A2, 6 2A1, 7 2A2, 8 GND, 9 GND, 10 2B2, 11 2B1, 12 1B2, 13 1B1, 14 2OE, 15 1OE, 16 VccB

## Stargazer_Die
designator J?
QFN32 Package
pins: 1 VddA_R, 2 VssA, 3 In, 4 Ibias_N, 5 Ibias_P, 6 Test_N, 7 Test_P, 8 Test_FVF, 9 Ibias_FVF, 10 Vbd_FVF, 11 Vdd_FVF, 12 Vss_FVF, 13 Vref, 14 Vref_H, 15 Vref_L, 16 CLK, 17 VssD, 18 VssD_R, 19 RST, 20 Dout_2, 21 Dout_1, 22 Cap_3, 23 Cap_2, 24 Cap_1, 25 Cap_0, 26 VddD_R, 27 VddD, 28 FVF_2, 29 FVF_1, 30 FVF_0, 31 VssA_R, 32 VddA

## TP
designator TP?
Interconnection Device 5006 https://www.digikey.ie/en/products/detail/keystone-electronics/5006/255330; Manufacturer: Keystone Electronics; Manufacturer Part Number: 5006; Supplier: Digikey; Supplier Part Number: 36-5006-ND; RoHS: Yes; Category: Connectors; Stock: 71011; Connector Type: Interconnection Device; Reach SVHC Compliant: Yes; RoHS Compliant: Yes; ComponentLink1URL: https://datasheet.ciiva.com:443/pdfs/VipMasterIC/IC/KEYC/KEYCS01036/KEYCS02044-1.pdf?src-supplier=IHS+Markit; ComponentLink1Description: https://datasheet.ciiva.com:443/pdfs/VipMasterIC/IC/KEYC/KEYCS01036/KEYCS02044-1.pdf?src-supplier=IHS+Markit; ComponentLink2URL: https://datasheet.ciiva.com/1454/1718283-1454829.pdf?src-supplier=Element14; ComponentLink2Description: https://datasheet.ciiva.com/1454/1718283-1454829.pdf?src-supplier=Element14; ComponentLink3URL: https://datasheet.ciiva.com/11744/0900766b8009b7c7-11744947.pdf?src-supplier=Rs; ComponentLink3Description: https://datasheet.ciiva.com/11744/0900766b8009b7c7-11744947.pdf?src-supplier=Rs; ComponentLink4URL: https://datasheet.ciiva.com/1123/m60-2p60-1123808.pdf?src-supplier=Newark; ComponentLink4Description: https://datasheet.ciiva.com/1123/m60-2p60-1123808.pdf?src-supplier=Newark; ComponentLink5URL: https://datasheet.ciiva.com/2917/m60-2p60-2917629.pdf?src-supplier=Digikey; ComponentLink5Description: https://datasheet.ciiva.com/2917/m60-2p60-2917629.pdf?src-supplier=Digikey; ComponentLink6URL: https://datasheet.ciiva.com/16883/70182825-16883963.pdf?src-supplier=Allied+Electronics; ComponentLink6Description: https://datasheet.ciiva.com/16883/70182825-16883963.pdf?src-supplier=Allied+Electronics
pins: 1 1 